# Altium schematic symbol library STC4054GR.SchLib: 1 symbol
Pins are listed as number, name and electrical type; pins without a type are passive.

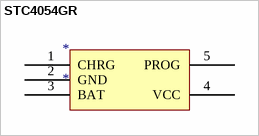
[diagram p0: symbol STC4054GR]

## STC4054GR
designator *
pins: 1 CHRG, 2 GND, 3 BAT, 4 VCC, 5 PROG